# EAGLE library part 8*C535 (library micro-siemens)
80C515/80C535 8-Bit CMOS Single-Chip Microcontroller Source: http://www.infineon.com/cmc_upload/migrated_files/document_files/Datasheet/d80515.pdf This device has been discontinued !!!
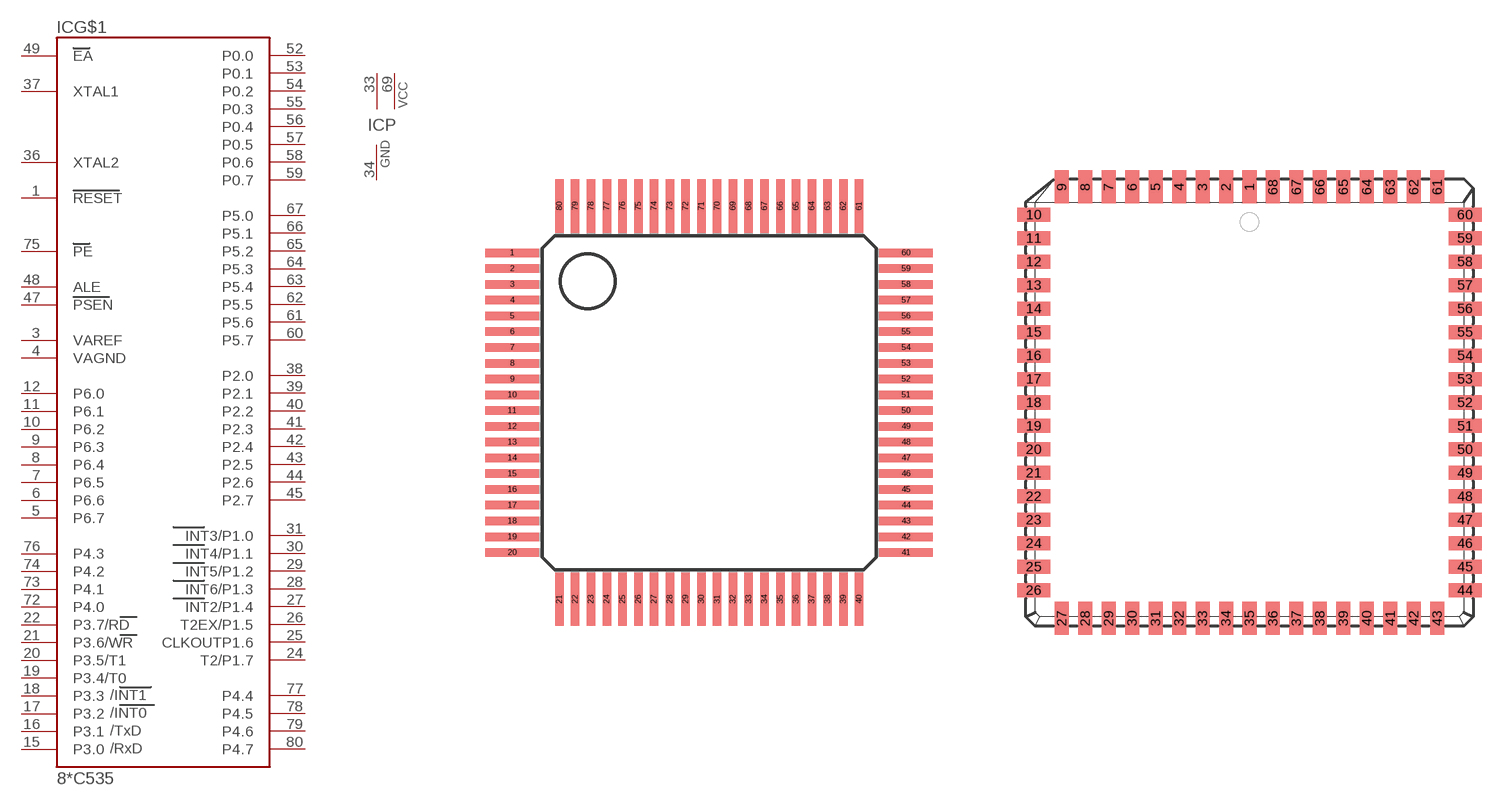
[diagram p63: symbol with the pads of MQFP80-1; footprints MQFP80-1, PLCC68]

Designator prefix IC; gates G$1=80C535-1 P=2VCC1GND

## 80C535M (OC_FARNELL: unknown; OC_NEWARK: unknown), 83C535M (OC_FARNELL: unknown; OC_NEWARK: unknown), 87C535M (OC_FARNELL: unknown; OC_NEWARK: unknown)  [MQFP80-1]
1  G$1:RESET  in
3  G$1:VAREF
4  G$1:VAGND
5  G$1:P6.7  in
6  G$1:P6.6  in
7  G$1:P6.5  in
8  G$1:P6.4  in
9  G$1:P6.3  in
10  G$1:P6.2  in
11  G$1:P6.1  in
12  G$1:P6.0  in
15  G$1:P3.0
16  G$1:P3.1
17  G$1:P3.2
18  G$1:P3.3
19  G$1:P3.4/T0
20  G$1:P3.5/T1
21  G$1:P3.6/WR
22  G$1:P3.7/RD
24  G$1:T2/P1.7
25  G$1:CLKOUTP1.6
26  G$1:T2EX/P1.5
27  G$1:INT2/P1.4
28  G$1:INT6/P1.3
29  G$1:INT5/P1.2
30  G$1:INT4/P1.1
31  G$1:INT3/P1.0
33  P:VCC  pwr
34  P:GND  pwr
36  G$1:XTAL2  in
37  G$1:XTAL1  in
38  G$1:P2.0
39  G$1:P2.1
40  G$1:P2.2
41  G$1:P2.3
42  G$1:P2.4
43  G$1:P2.5
44  G$1:P2.6
45  G$1:P2.7
47  G$1:PSEN  out
48  G$1:ALE  out
49  G$1:EA  in
52  G$1:P0.0
53  G$1:P0.1
54  G$1:P0.2
55  G$1:P0.3
56  G$1:P0.4
57  G$1:P0.5
58  G$1:P0.6
59  G$1:P0.7
60  G$1:P5.7
61  G$1:P5.6
62  G$1:P5.5
63  G$1:P5.4
64  G$1:P5.3
65  G$1:P5.2
66  G$1:P5.1
67  G$1:P5.0
69  P:VCC  pwr
72  G$1:P4.0
73  G$1:P4.1
74  G$1:P4.2
75  G$1:PE  in
76  G$1:P4.3
77  G$1:P4.4
78  G$1:P4.5
79  G$1:P4.6
80  G$1:P4.7

## 8C535N (OC_FARNELL: unknown; OC_NEWARK: unknown)  [PLCC68]
1  G$1:P4.0
2  G$1:P4.1
3  G$1:P4.2
4  G$1:PE  in
5  G$1:P4.3
6  G$1:P4.4
7  G$1:P4.5
8  G$1:P4.6
9  G$1:P4.7
10  G$1:RESET  in
11  G$1:VAREF
12  G$1:VAGND
13  G$1:P6.7  in
14  G$1:P6.6  in
15  G$1:P6.5  in
16  G$1:P6.4  in
17  G$1:P6.3  in
18  G$1:P6.2  in
19  G$1:P6.1  in
20  G$1:P6.0  in
21  G$1:P3.0
22  G$1:P3.1
23  G$1:P3.2
24  G$1:P3.3
25  G$1:P3.4/T0
26  G$1:P3.5/T1
27  G$1:P3.6/WR
28  G$1:P3.7/RD
29  G$1:T2/P1.7
30  G$1:CLKOUTP1.6
31  G$1:T2EX/P1.5
32  G$1:INT2/P1.4
33  G$1:INT6/P1.3
34  G$1:INT5/P1.2
35  G$1:INT4/P1.1
36  G$1:INT3/P1.0
37  P:VCC  pwr
38  P:GND  pwr
39  G$1:XTAL2  in
40  G$1:XTAL1  in
41  G$1:P2.0
42  G$1:P2.1
43  G$1:P2.2
44  G$1:P2.3
45  G$1:P2.4
46  G$1:P2.5
47  G$1:P2.6
48  G$1:P2.7
49  G$1:PSEN  out
50  G$1:ALE  out
51  G$1:EA  in
52  G$1:P0.0
53  G$1:P0.1
54  G$1:P0.2
55  G$1:P0.3
56  G$1:P0.4
57  G$1:P0.5
58  G$1:P0.6
59  G$1:P0.7
60  G$1:P5.7
61  G$1:P5.6
62  G$1:P5.5
63  G$1:P5.4
64  G$1:P5.3
65  G$1:P5.2
66  G$1:P5.1
67  G$1:P5.0
68  P:VCC  pwr

## 8C535N-S (OC_FARNELL: unknown; OC_NEWARK: unknown)  [PLCC68SOCK]
Pads as for PLCC68

## Footprint MQFP80-1 (pad centres in mm)
Metric Quad Flat Pack
smd 2.2 x 0.35: 1 -8.125,6.175; 2 -8.125,5.525; 3 -8.125,4.875; 4 -8.125,4.225; 5 -8.125,3.575; 6 -8.125,2.925; 7 -8.125,2.275; 8 -8.125,1.625; 9 -8.125,0.975; 10 -8.125,0.325; 11 -8.125,-0.325; 12 -8.125,-0.975; 13 -8.125,-1.625; 14 -8.125,-2.275; 15 -8.125,-2.925; 16 -8.125,-3.575; 17 -8.125,-4.225; 18 -8.125,-4.875; 19 -8.125,-5.525; 20 -8.125,-6.175; 41 8.1,-6.175; 42 8.1,-5.525; 43 8.1,-4.875; 44 8.1,-4.225; 45 8.1,-3.575; 46 8.1,-2.925; 47 8.1,-2.275; 48 8.1,-1.625; 49 8.1,-0.975; 50 8.1,-0.325; 51 8.1,0.325; 52 8.1,0.975; 53 8.1,1.625; 54 8.1,2.275; 55 8.1,2.925; 56 8.1,3.575; 57 8.1,4.225; 58 8.1,4.875; 59 8.1,5.525; 60 8.1,6.175
smd 0.35 x 2.2: 21 -6.175,-8.1; 22 -5.525,-8.1; 23 -4.875,-8.1; 24 -4.225,-8.1; 25 -3.575,-8.1; 26 -2.925,-8.1; 27 -2.275,-8.1; 28 -1.625,-8.1; 29 -0.975,-8.1; 30 -0.325,-8.1; 31 0.325,-8.1; 32 0.975,-8.1; 33 1.625,-8.1; 34 2.275,-8.1; 35 2.925,-8.1; 36 3.575,-8.1; 37 4.225,-8.1; 38 4.875,-8.1; 39 5.525,-8.1; 40 6.175,-8.1; 61 6.175,8.1; 62 5.525,8.1; 63 4.875,8.1; 64 4.225,8.1; 65 3.575,8.1; 66 2.925,8.1; 67 2.275,8.1; 68 1.625,8.1; 69 0.975,8.1; 70 0.325,8.1; 71 -0.325,8.1; 72 -0.975,8.1; 73 -1.625,8.1; 74 -2.275,8.1; 75 -2.925,8.1; 76 -3.575,8.1; 77 -4.225,8.1; 78 -4.875,8.1; 79 -5.525,8.1; 80 -6.175,8.1

## Footprint PLCC68 (pad centres in mm)
PLASTIC LEADED CHIP CARRIER square
smd 0.76 x 1.8: 1 0,11.67; 2 -1.27,11.67; 3 -2.54,11.67; 4 -3.81,11.67; 5 -5.08,11.67; 6 -6.35,11.67; 7 -7.62,11.67; 8 -8.89,11.67; 9 -10.16,11.67; 27 -10.16,-11.67; 28 -8.89,-11.67; 29 -7.62,-11.67; 30 -6.35,-11.67; 31 -5.08,-11.67; 32 -3.81,-11.67; 33 -2.54,-11.67; 34 -1.27,-11.67; 35 0,-11.67; 36 1.27,-11.67; 37 2.54,-11.67; 38 3.81,-11.67; 39 5.08,-11.67; 40 6.35,-11.67; 41 7.62,-11.67; 42 8.89,-11.67; 43 10.16,-11.67; 61 10.16,11.67; 62 8.89,11.67; 63 7.62,11.67; 64 6.35,11.67; 65 5.08,11.67; 66 3.81,11.67; 67 2.54,11.67; 68 1.27,11.67
smd 1.8 x 0.76: 10 -11.67,10.16; 11 -11.67,8.89; 12 -11.67,7.62; 13 -11.67,6.35; 14 -11.67,5.08; 15 -11.67,3.81; 16 -11.67,2.54; 17 -11.67,1.27; 18 -11.67,0; 19 -11.67,-1.27; 20 -11.67,-2.54; 21 -11.67,-3.81; 22 -11.67,-5.08; 23 -11.67,-6.35; 24 -11.67,-7.62; 25 -11.67,-8.89; 26 -11.67,-10.16; 44 11.67,-10.16; 45 11.67,-8.89; 46 11.67,-7.62; 47 11.67,-6.35; 48 11.67,-5.08; 49 11.67,-3.81; 50 11.67,-2.54; 51 11.67,-1.27; 52 11.67,0; 53 11.67,1.27; 54 11.67,2.54; 55 11.67,3.81; 56 11.67,5.08; 57 11.67,6.35; 58 11.67,7.62; 59 11.67,8.89; 60 11.67,10.16

## Footprint PLCC68SOCK (pad centres in mm)
PLASTIC LEADED CHIP CARRIER socked
drill 0.813: 1 0,12.7
drill 0.813 octagon: 2 0,10.16; 3 -2.54,12.7; 4 -2.54,10.16; 5 -5.08,12.7; 6 -5.08,10.16; 7 -7.62,12.7; 8 -7.62,10.16; 9 -10.16,12.7; 10 -12.7,10.16; 11 -10.16,10.16; 12 -12.7,7.62; 13 -10.16,7.62; 14 -12.7,5.08; 15 -10.16,5.08; 16 -12.7,2.54; 17 -10.16,2.54; 18 -12.7,0; 19 -10.16,0; 20 -12.7,-2.54; 21 -10.16,-2.54; 22 -12.7,-5.08; 23 -10.16,-5.08; 24 -12.7,-7.62; 25 -10.16,-7.62; 26 -12.7,-10.16; 27 -10.16,-12.7; 28 -10.16,-10.16; 29 -7.62,-12.7; 30 -7.62,-10.16; 31 -5.08,-12.7; 32 -5.08,-10.16; 33 -2.54,-12.7; 34 -2.54,-10.16; 35 0,-12.7; 36 0,-10.16; 37 2.54,-12.7; 38 2.54,-10.16; 39 5.08,-12.7; 40 5.08,-10.16; 41 7.62,-12.7; 42 7.62,-10.16; 43 10.16,-12.7; 44 12.7,-10.16; 45 10.16,-10.16; 46 12.7,-7.62; 47 10.16,-7.62; 48 12.7,-5.08; 49 10.16,-5.08; 50 12.7,-2.54; 51 10.16,-2.54; 52 12.7,0; 53 10.16,0; 54 12.7,2.54; 55 10.16,2.54; 56 12.7,5.08; 57 10.16,5.08; 58 12.7,7.62; 59 10.16,7.62; 60 12.7,10.16; 61 10.16,12.7; 62 10.16,10.16; 63 7.62,12.7; 64 7.62,10.16; 65 5.08,12.7; 66 5.08,10.16; 67 2.54,12.7; 68 2.54,10.16